# Altium footprint library BM71BLES1FC2.PcbLib: 1 footprints
Each footprint in its own frame and in the unit in brackets; x right, y up, seen from the top. Pads: shape width x height; smd on the part's side, far side on the other; paste and mask are expansions set on the pad; w line width, h text height; cw(c..) or ccw(c..) is an arc to the next point about the centre after c.
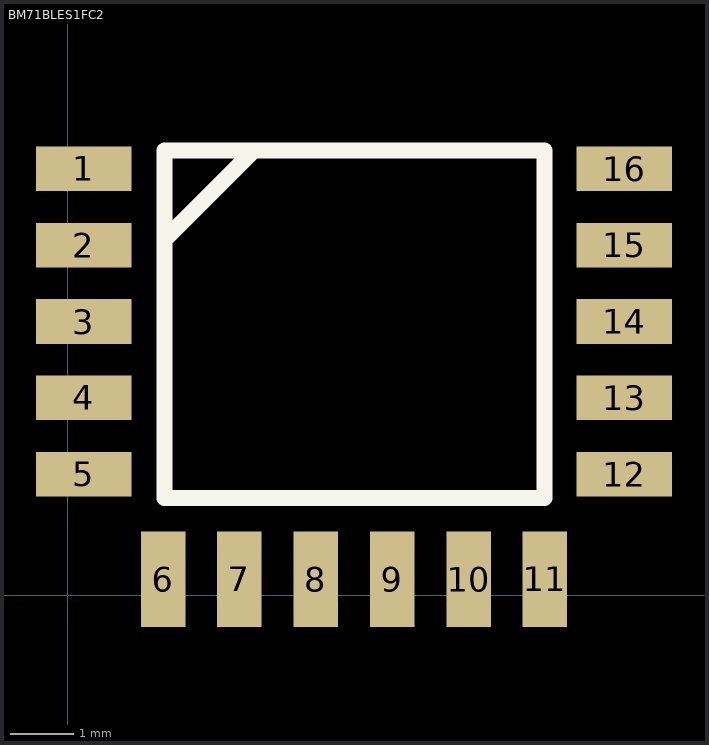
[diagram p0: the footprint, top view; thin cyan lines are the x and y axes]

## BM71BLES1FC2 [mm] "Bluetooth Module"
pads (16):
  rect 1.5x0.7 smd: 1(0.25,6.7) 2(0.25,5.5) 3(0.25,4.3) 4(0.25,3.1) 5(0.25,1.9) 12(8.75,1.9) 13(8.75,3.1) 14(8.75,4.3) 15(8.75,5.5) 16(8.75,6.7)
  rect 0.7x1.5 smd: 6(1.5,0.25) 7(2.7,0.25) 8(3.9,0.25) 9(5.1,0.25) 10(6.3,0.25) 11(7.5,0.25)
Top Overlay:
  lines w0.254: 1.524,5.588 2.921,6.985 ; 1.524,6.604 1.524,6.858 ; 2.286,6.985 1.524,6.985 ; 1.524,6.985 1.524,1.524 7.493,1.524 7.493,6.985 1.524,6.985
3D body: height 2, standoff 0, extent 0,7.493 9.017,11.557